# Altium integrated library 532610671.IntLib: 1 symbol
Pins are listed as number, name and electrical type; pins without a type are passive.

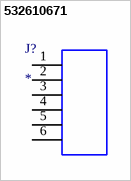
[diagram p0: symbol 532610671]

## 532610671
designator J?
Conn Shrouded Header (4 Sides) HDR 6 POS 1.25mm Solder RA Side Entry SMD PicoBladeâ„¢ T/R; MF: Molex; MP: 532610671; SnapEDA_Link: https://www.snapeda.com/parts/532610671/Molex/view-part/?ref=snap; Package: None; Value: *; Check_prices: https://www.snapeda.com/parts/532610671/Molex/view-part/?ref=eda
footprint CONN_532610001-SD_06_MOL
pins: 1, 2, 3, 4, 5, 6